# EAGLE library part PDU100 (library HydraSpex)
PiezoDrive PDu100 The PDu100 is an extremely small and lightweight driver for piezoelectric actuators. The PDu100 can drive two-wire piezoelectric actuators and benders up to +/-100 V. The PDu100 can also drive three-wire piezoelectric benders and stack actuators up to +100 V. Applications include battery powered robotics, piezoelectric motors, and ultra low-power positioning and manipulation systems. The PDu100 is protected against short circuit, current overload, and excessive temperature. A shutdown pin is also provided that reduces the supply current to 1 mA when pulled low. The output voltage range and gain of the PDu100 is customizable to meet the requirements of OEM applications.
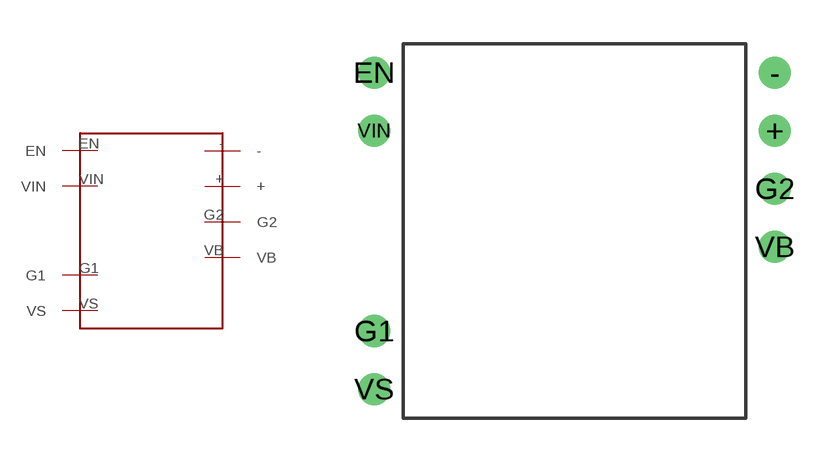
[diagram p1: symbol with the pads of PDU100; footprint PDU100]

Designator prefix -

## PDU100  [PDU100]
+  +
-  -
EN  EN
G1  G1
G2  G2
VB  VB
VIN  VIN
VS  VS

## Footprint PDU100 (pad centres in mm)
drill 0.6: + 12.8,9.9; - 12.8,11.9; EN -1,11.9; G1 -1,3; G2 12.8,7.9; VB 12.8,5.9; VIN -1,9.9; VS -1,1